# EAGLE library part N25Q128A13EF840E (library N25Q128A13EF840E)
IC FLASH 128MBIT 108MHZ 8VDFPN Source: Datasheet <http://www.micron.com/~/media/Documents/Products/Data Sheet/NOR Flash/Serial NOR/N25Q/n25q_128mb_3v_65nm.pdf>
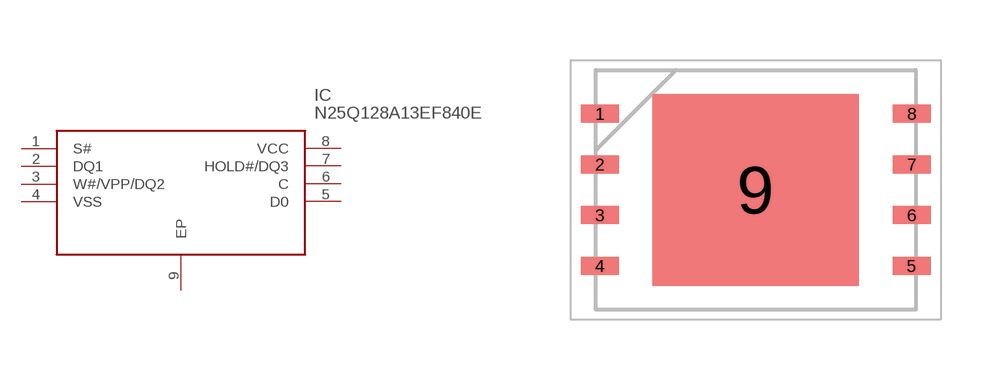
[diagram p0: symbol with the pads of SON127P800X600X100-9N; footprint SON127P800X600X100-9N]

Designator prefix IC

## N25Q128A13EF840E (Description: IC FLASH 128MBIT 108MHZ 8VDFPN; Height: 1mm; Manufacturer_Name: Micron; Manufacturer_Part_Number: N25Q128A13EF840E; Mouser_Part_Number: 340-182262; Mouser_Price-Stock: https://www.mouser.co.uk/ProductDetail/Micron/N25Q128A13EF840E?qs=taEdVNyAfdFI9tHiPNwj0g%3D%3D)  [SON127P800X600X100-9N]
1  S#
2  DQ1
3  W#/VPP/DQ2
4  VSS
5  D0
6  C
7  HOLD#/DQ3
8  VCC
9  EP

## Footprint SON127P800X600X100-9N (pad centres in mm)
V-PDFN-8/8mm x 6mm Package F8
smd 0.95 x 0.45: 1 -3.9,1.905; 2 -3.9,0.635; 3 -3.9,-0.635; 4 -3.9,-1.905; 5 3.9,-1.905; 6 3.9,-0.635; 7 3.9,0.635; 8 3.9,1.905
smd 5.16 x 4.8: 9 0,0